# EAGLE library part FPC-1X15 (library Header and Connector)
FPC connector for Raspberry Pi CSI camera
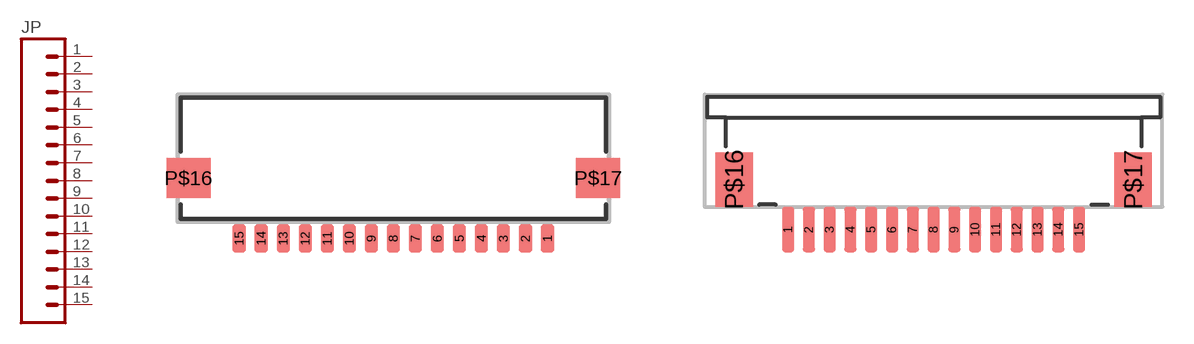
[diagram p32: symbol with the pads of FPC-RA-B-1X15-1MM; footprints FPC-RA-B-1X15-1MM, FPC-RA-T-1X15-1MM]

Designator prefix JP

## FPC-1X15_(RA-B-1MM) (DESC: FPC connector; REMARK: Bottom contact; VALUE: 15 Ways)  [FPC-RA-B-1X15-1MM]
1  1  pas
2  2  pas
3  3  pas
4  4  pas
5  5  pas
6  6  pas
7  7  pas
8  8  pas
9  9  pas
10  10  pas
11  11  pas
12  12  pas
13  13  pas
14  14  pas
15  15  pas

## FPC-1X15_(RA-T-1MM) (DESC: FPC connector; REMARK: Top contact; VALUE: 15 Ways)  [FPC-RA-T-1X15-1MM]
Pads as for FPC-RA-B-1X15-1MM

## FPC-1X15_(RA-B-1MM_UP) (CYTRON-PC: S-CN-FPC1.0-15-B; DESC: S FPC Connector 1.0mm Pitch 15W Bottom; REMARK: Bottom Contact; VALUE: 15 Ways)  [FPC-RA-B-1X15-1MM-UP]
Pads as for FPC-RA-B-1X15-1MM

## FPC-1X15_(VERTICAL-1MM)  [FPC-1X15-1MM]
1A  1  pas
1B  1  pas
2A  2  pas
2B  2  pas
3A  3  pas
3B  3  pas
4A  4  pas
4B  4  pas
5A  5  pas
5B  5  pas
6A  6  pas
6B  6  pas
7A  7  pas
7B  7  pas
8A  8  pas
8B  8  pas
9A  9  pas
9B  9  pas
10A  10  pas
10B  10  pas
11A  11  pas
11B  11  pas
12A  12  pas
12B  12  pas
13A  13  pas
13B  13  pas
14A  14  pas
14B  14  pas
15A  15  pas
15B  15  pas

## Footprint FPC-RA-B-1X15-1MM (pad centres in mm)
FPC connector for Raspberry Pi CSI camera Size: 19.6mm x 6.5mm Pitch: 1mm Contact: 15 Contact Position: Bottom Reference: http://my.element14.com/wurth-elektronik/686115148922/connector-fpc-receptacle-15pos/dp/2470725 Created by: Idris
smd 0.6 x 1.3: 1 7,-2.75; 2 6,-2.75; 3 5,-2.75; 4 4,-2.75; 5 3,-2.75; 6 2,-2.75; 7 1,-2.75; 8 0,-2.75; 9 -1,-2.75; 10 -2,-2.75; 11 -3,-2.75; 12 -4,-2.75; 13 -5,-2.75; 14 -6,-2.75; 15 -7,-2.75
smd 2 x 1.8: P$16 -9.3,0; P$17 9.3,0

## Footprint FPC-RA-T-1X15-1MM (pad centres in mm)
FPC connector for Raspberry Pi CSI camera Size: 22mm x 7.1mm Pitch: 1mm Contact: 15 Contact Position: Top Reference: http://my.element14.com/wurth-elektronik/68611514122/connector-fpc-zif-15pos-1mm/dp/2520126 Created by: Idris
smd 0.6 x 2.2: 1 -7,-2.4; 2 -6,-2.4; 3 -5,-2.4; 4 -4,-2.4; 5 -3,-2.4; 6 -2,-2.4; 7 -1,-2.4; 8 0,-2.4; 9 1,-2.4; 10 2,-2.4; 11 3,-2.4; 12 4,-2.4; 13 5,-2.4; 14 6,-2.4; 15 7,-2.4
smd 1.8 x 2.6: P$16 -9.6,0; P$17 9.6,0

## Footprint FPC-RA-B-1X15-1MM-UP (pad centres in mm)
FPC connector for Raspberry Pi CSI camera (Open Up) Size: 19.6mm x 6.5mm Pitch: 1mm Contact: 15 Contact Position: Bottom Created by: Wai Weng
smd 0.6 x 1.3: 1 7,-2.75; 2 6,-2.75; 3 5,-2.75; 4 4,-2.75; 5 3,-2.75; 6 2,-2.75; 7 1,-2.75; 8 0,-2.75; 9 -1,-2.75; 10 -2,-2.75; 11 -3,-2.75; 12 -4,-2.75; 13 -5,-2.75; 14 -6,-2.75; 15 -7,-2.75
smd 2.2 x 1.4: P$16 -9.3,0.5; P$17 9.3,0.5

## Footprint FPC-1X15-1MM (pad centres in mm)
FPC Connector 1x15 (Vertical) For Raspberry Pi CSI and DSI Port.
smd 0.5 x 1.5: 1A -7,-1.65; 1B -7,1.65; 2A -6,-1.65; 2B -6,1.65; 3A -5,-1.65; 3B -5,1.65; 4A -4,-1.65; 4B -4,1.65; 5A -3,-1.65; 5B -3,1.65; 6A -2,-1.65; 6B -2,1.65; 7A -1,-1.65; 7B -1,1.65; 8A 0,-1.65; 8B 0,1.65; 9A 1,-1.65; 9B 1,1.65; 10A 2,-1.65; 10B 2,1.65; 11A 3,-1.65; 11B 3,1.65; 12A 4,-1.65; 12B 4,1.65; 13A 5,-1.65; 13B 5,1.65; 14A 6,-1.65; 14B 6,1.65; 15A 7,-1.65; 15B 7,1.65